# Altium footprint library LFCSP-32.PcbLib: 1 footprints
Each footprint in its own frame and in the unit in brackets; x right, y up, seen from the top. Pads: shape width x height; smd on the part's side, far side on the other; paste and mask are expansions set on the pad; w line width, h text height; cw(c..) or ccw(c..) is an arc to the next point about the centre after c.
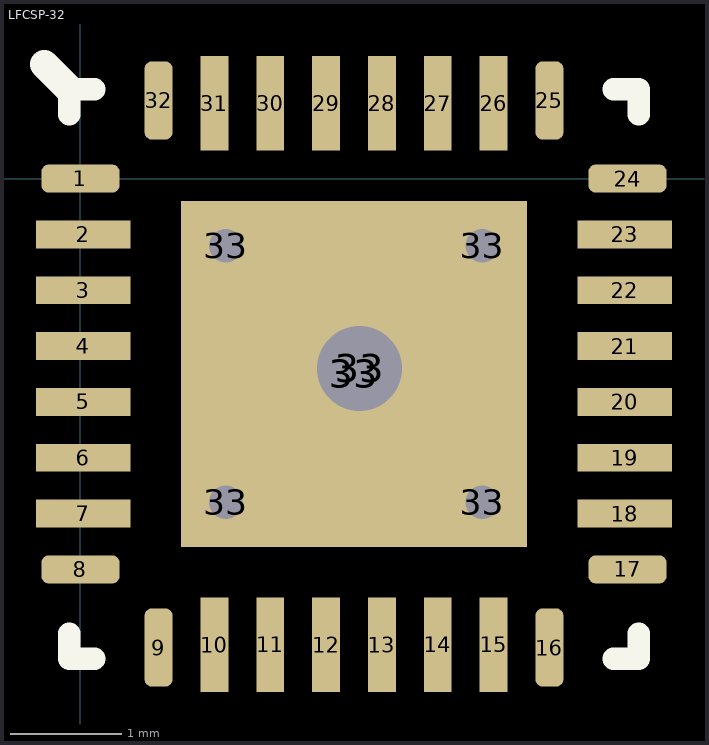
[diagram p0: the footprint, top view; thin cyan lines are the x and y axes]

## LFCSP-32 [mm] "32-Lead Frame Chip Scale Package 5х5"
height 0.8
pads (38):
  rrect50% 0.7x0.25 smd mask+0.05: 1(0,0) 8(0,-3.5) 17(4.9,-3.5) 24(4.9,0)
  rect 0.85x0.25 smd mask+0.05: 2(0.025,-0.5) 3(0.025,-1) 4(0.025,-1.5) 5(0.025,-2) 6(0.025,-2.5) 7(0.025,-3) 18(4.875,-3) 19(4.875,-2.5) 20(4.875,-2) 21(4.875,-1.5) 22(4.875,-1) 23(4.875,-0.5)
  rrect50% 0.25x0.7 smd mask+0.05: 9(0.7,-4.2) 16(4.2,-4.2) 25(4.2,0.7) 32(0.7,0.7)
  rect 0.25x0.85 smd mask+0.05: 10(1.2,-4.175) 11(1.7,-4.175) 12(2.2,-4.175) 13(2.7,-4.175) 14(3.2,-4.175) 15(3.7,-4.175) 26(3.7,0.675) 27(3.2,0.675) 28(2.7,0.675) 29(2.2,0.675) 30(1.7,0.675) 31(1.2,0.675)
  round 0.5 hole 0.3: 33(1.3,-2.9) 33(1.3,-0.6) 33(3.6,-2.9) 33(3.6,-0.6)
  rect 3.1x3.1 smd mask+0.05: 33(2.45,-1.75)
  round 1.524 hole 0.762: 33(2.5,-1.7)
Top Overlay:
  lines w0.2: -0.1,-4.075 -0.1,-4.3 0.125,-4.3 ; -0.1,0.575 -0.1,0.8 0.125,0.8 ; 4.775,-4.3 5,-4.3 5,-4.075 ; 4.775,0.8 5,0.8 5,0.575
  lines w0.254: -0.325,1.025 -0.1,0.8
3D body "LFCSP.step": height 0.8, standoff 0, extent -0.1,-4.3 5,0.8